# Altium footprint library CRCW060315K0FKEA.PcbLib: 3 footprints
Each footprint in its own frame and in the unit in brackets; x right, y up, seen from the top. Pads: shape width x height; smd on the part's side, far side on the other; paste and mask are expansions set on the pad; w line width, h text height; cw(c..) or ccw(c..) is an arc to the next point about the centre after c.
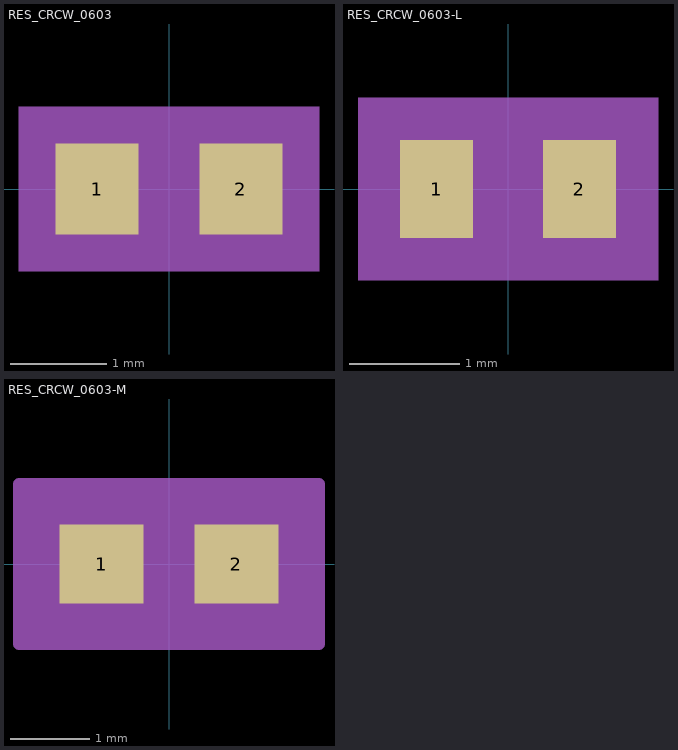
[diagram p0: the footprints below, top view; thin cyan lines are the x and y axes]

## RES_CRCW_0603 [mil]
pads (2):
  rect 33.78x37 smd paste+0 mask+0: 1(-29.39,0) 2(29.39,0)
Mechanical 5:
  region: 61.28,-33.5 -61.28,-33.5 -61.28,33.5 61.28,33.5
Mechanical 13:
  lines w1: -32.5,-18.5 -32.5,18.5 ; -32.5,-18.5 -12.5,-18.5 -12.5,18.5 -32.5,18.5 ; -32.5,-18.5 32.5,-18.5 ; -32.5,-18.5 -32.5,18.5 ; -32.5,18.5 32.5,18.5 ; 32.5,-18.5 12.5,-18.5 12.5,18.5 32.5,18.5 ; 32.5,-18.5 32.5,18.5 ; 32.5,-18.5 32.5,18.5
Mechanical 15:
  region: 56.28,-28.5 -56.28,-28.5 -56.28,28.5 56.28,28.5
  lines w6: -56.28,-28.5 -56.28,28.5 56.28,28.5 56.28,-28.5 -56.28,-28.5
3D body "RES_CRCW_0603.step": height 20, standoff 0, extent -32.52,-18.5 32.52,18.5

## RES_CRCW_0603-L [mil]
pads (2):
  rect 25.91x35.03 smd paste+0 mask+0: 1(-25.45,0) 2(25.45,0)
Mechanical 5:
  region: 53.41,-32.52 -53.41,-32.52 -53.41,32.52 53.41,32.52
Mechanical 13:
  lines w1: -32.5,-18.5 -32.5,18.5 ; -32.5,-18.5 -12.5,-18.5 -12.5,18.5 -32.5,18.5 ; -32.5,-18.5 32.5,-18.5 ; -32.5,-18.5 -32.5,18.5 ; -32.5,18.5 32.5,18.5 ; 32.5,-18.5 12.5,-18.5 12.5,18.5 32.5,18.5 ; 32.5,-18.5 32.5,18.5 ; 32.5,-18.5 32.5,18.5
Mechanical 15:
  region: 42.41,-21.52 -42.41,-21.52 -42.41,21.52 42.41,21.52
  lines w6: -42.41,-21.52 -42.41,21.52 42.41,21.52 42.41,-21.52 -42.41,-21.52
3D body "RES_CRCW_0603.step": height 20, standoff 0, extent -32.52,-18.5 32.52,18.5

## RES_CRCW_0603-M [mil]
pads (2):
  rect 41.65x38.97 smd paste+0 mask+0: 1(-33.33,0) 2(33.33,0)
Mechanical 5:
  region: 69.15,-34.48 -69.15,-34.48 -69.15,34.48 69.15,34.48
Mechanical 13:
  lines w1: -32.5,-18.5 -32.5,18.5 ; -32.5,-18.5 -12.5,-18.5 -12.5,18.5 -32.5,18.5 ; -32.5,-18.5 32.5,-18.5 ; -32.5,-18.5 -32.5,18.5 ; -32.5,18.5 32.5,18.5 ; 32.5,-18.5 12.5,-18.5 12.5,18.5 32.5,18.5 ; 32.5,-18.5 32.5,18.5 ; 32.5,-18.5 32.5,18.5
Mechanical 15:
  region: 74.15,-39.48 -74.15,-39.48 -74.15,39.48 74.15,39.48
  lines w6: -74.15,-39.48 -74.15,39.48 74.15,39.48 74.15,-39.48 -74.15,-39.48
3D body "RES_CRCW_0603.step": height 20, standoff 0, extent -32.52,-18.5 32.52,18.5